# Altium footprint library Passives.PcbLib: 48 footprints (part 1 of 3)
Each footprint in its own frame and in the unit in brackets; x right, y up, seen from the top. Pads: shape width x height; smd on the part's side, far side on the other; paste and mask are expansions set on the pad; w line width, h text height; cw(c..) or ccw(c..) is an arc to the next point about the centre after c.
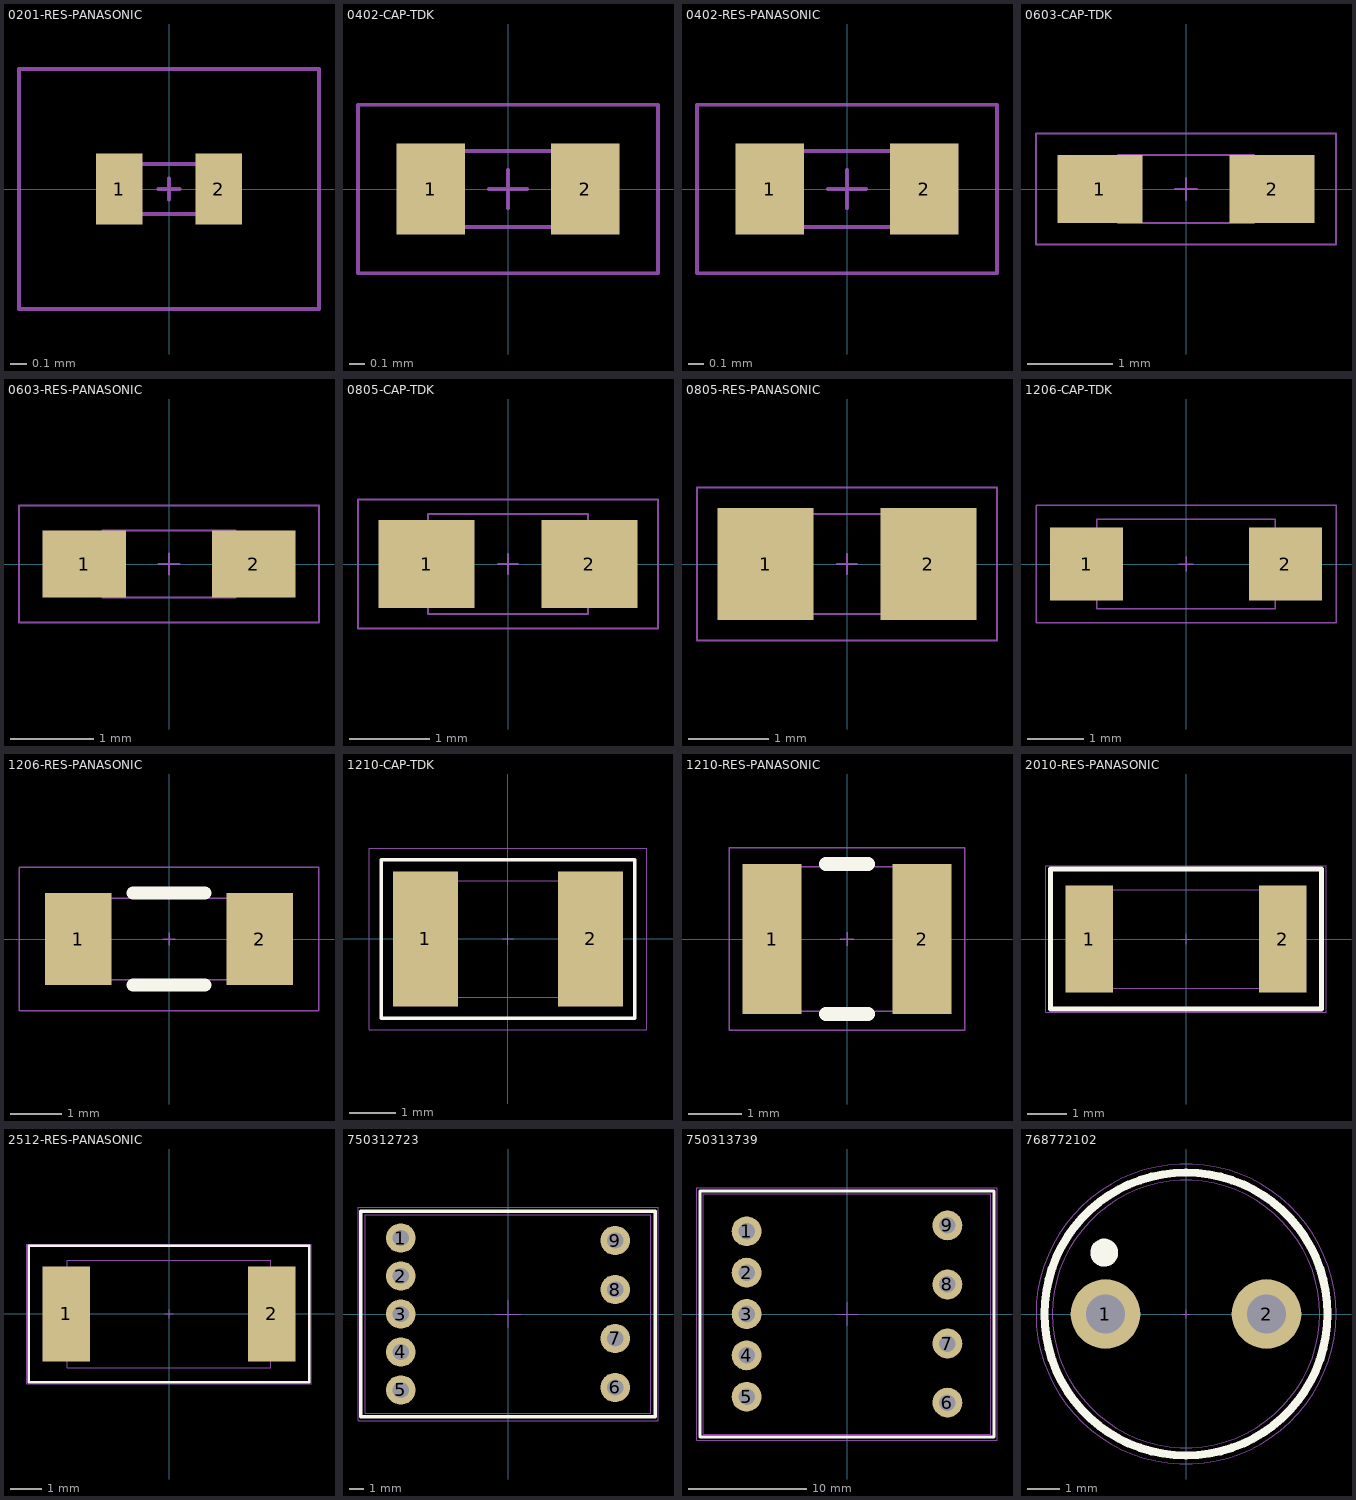
[diagram p0: the footprints below, top view; thin cyan lines are the x and y axes]

## 0201-RES-PANASONIC [mm]
pads (2):
  rect 0.28x0.43 smd mask+0.05: 1(-0.3,0) 2(0.3,0)
Top Courtyard:
  lines w0.025: -0.903,-0.723 -0.903,0.723 0.903,0.723 0.903,-0.723 -0.903,-0.723
Top Assembly:
  lines w0.025: -0.064,0 0.064,0 ; 0,-0.064 0,0.064 ; -0.3,-0.15 0.3,-0.15 0.3,0.15 -0.3,0.15 -0.3,-0.15
3D body "YAG_R0201_YAG.step": height 0.25, standoff 0, extent -0.318,-0.165 0.318,0.165

## 0402-CAP-TDK [mm]
pads (2):
  rect 0.45x0.6 smd: 1(-0.508,0) 2(0.508,0)
Top Courtyard:
  lines w0.025: -0.987,-0.554 0.987,-0.554 0.987,0.554 -0.987,0.554 -0.987,-0.554
Top Assembly:
  lines w0.025: -0.127,0 0.127,0 ; 0,-0.127 0,0.127 ; -0.5,-0.25 -0.5,0.25 0.5,0.25 0.5,-0.25 -0.5,-0.25
3D body "C1005C0G1H100D050BA.STEP": height 0.55, standoff 0, extent -0.5,-0.25 0.5,0.25

## 0402-RES-PANASONIC [mm]
pads (2):
  rect 0.45x0.6 smd: 1(-0.508,0) 2(0.508,0)
Top Courtyard:
  lines w0.025: -0.987,-0.554 -0.987,0.554 0.987,0.554 0.987,-0.554 -0.987,-0.554
Top Assembly:
  lines w0.025: -0.127,0 0.127,0 ; 0,-0.127 0,0.127 ; -0.5,-0.25 0.5,-0.25 0.5,0.25 -0.5,0.25 -0.5,-0.25
3D body "ERJ2RKF1003X.STEP": height 0.35, standoff 0, extent -0.5,-0.25 0.5,0.25

## 0603-CAP-TDK [mm]
pads (2):
  rect 1x0.8 smd: 1(-1.016,0) 2(1.016,0)
Top Courtyard:
  lines w0.025: -1.77,-0.654 1.77,-0.654 1.77,0.654 -1.77,0.654 -1.77,-0.654
Top Assembly:
  lines w0.025: -0.127,0 0.127,0 ; 0,-0.127 0,0.127 ; -0.8,-0.4 -0.8,0.4 0.8,0.4 0.8,-0.4 -0.8,-0.4
3D body "C1608C0G1H100D080AA.STEP": height 0.9, standoff 0, extent -0.8,-0.4 0.8,0.4

## 0603-RES-PANASONIC [mm]
pads (2):
  rect 1x0.8 smd: 1(-1.016,0) 2(1.016,0)
Top Courtyard:
  lines w0.025: -1.8,-0.7 1.8,-0.7 1.8,0.7 -1.8,0.7 -1.8,-0.7
Top Assembly:
  lines w0.025: -0.127,0 0.127,0 ; 0,-0.127 0,0.127 ; -0.8,-0.4 -0.8,0.4 0.8,0.4 0.8,-0.4 -0.8,-0.4
3D body "ERJ3EKF1003V.STEP": height 0.45, standoff 0, extent -0.8,-0.4 0.8,0.4

## 0805-CAP-TDK [mm]
pads (2):
  rect 1.2x1.1 smd: 1(-1.016,0) 2(1.016,0)
Top Courtyard:
  lines w0.025: -1.87,-0.804 -1.87,0.804 1.87,0.804 1.87,-0.804 -1.87,-0.804
Top Assembly:
  lines w0.025: -0.127,0 0.127,0 ; 0,-0.127 0,0.127 ; -1,-0.625 1,-0.625 1,0.625 -1,0.625 -1,-0.625
3D body "C2012X5R0G476M125AB.STEP": height 1.45, standoff 0, extent -1,-0.625 1,0.625

## 0805-RES-PANASONIC [mm]
pads (2):
  rect 1.2x1.4 smd: 1(-1.016,0) 2(1.016,0)
Top Courtyard:
  lines w0.025: -1.87,-0.954 1.87,-0.954 1.87,0.954 -1.87,0.954 -1.87,-0.954
Top Assembly:
  lines w0.025: -0.127,0 0.127,0 ; 0,-0.127 0,0.127 ; -1,-0.625 -1,0.625 1,0.625 1,-0.625 -1,-0.625
3D body "ERJP06F1003V.STEP": height 0.6, standoff 0, extent -1,-0.625 1,0.625

## 1206-CAP-TDK [mm]
pads (2):
  rect 1.3x1.3 smd: 1(-1.778,0) 2(1.778,0)
Top Courtyard:
  lines w0.025: -2.682,-1.054 -2.682,1.054 2.682,1.054 2.682,-1.054 -2.682,-1.054
Top Assembly:
  lines w0.025: -0.127,0 0.127,0 ; 0,-0.127 0,0.127 ; -1.6,-0.8 1.6,-0.8 1.6,0.8 -1.6,0.8 -1.6,-0.8
3D body "C3216X5R1V226M160AC.STEP": height 1.8, standoff 0, extent -1.6,-0.8 1.6,0.8

## 1206-RES-PANASONIC [mm]
pads (2):
  rect 1.3x1.8 smd: 1(-1.778,0) 2(1.778,0)
Top Overlay:
  lines w0.254: -0.7,-0.9 0.7,-0.9 ; -0.7,0.9 0.7,0.9
Top Courtyard:
  lines w0.025: -2.936,-1.408 2.936,-1.408 2.936,1.408 -2.936,1.408 -2.936,-1.408
Top Assembly:
  lines w0.025: -0.127,0 0.127,0 ; 0,-0.127 0,0.127 ; -1.6,-0.8 -1.6,0.8 1.6,0.8 1.6,-0.8 -1.6,-0.8
3D body "ERJ8BWFR100V.STEP": height 0.65, standoff 0, extent -1.6,-0.8 1.6,0.8

## 1210-CAP-TDK [mm]
pads (2):
  rect 1.4x2.9 smd: 1(-1.778,0) 2(1.778,0)
Top Overlay:
  lines w0.076: -2.732,-1.704 2.732,-1.704 2.732,1.704 -2.732,1.704 -2.732,-1.704
Top Courtyard:
  lines w0.025: -2.986,-1.958 -2.986,1.958 2.986,1.958 2.986,-1.958 -2.986,-1.958
Top Assembly:
  lines w0.025: -0.127,0 0.127,0 ; 0,-0.127 0,0.127 ; -1.6,-1.25 1.6,-1.25 1.6,1.25 -1.6,1.25 -1.6,-1.25
3D body "GRM32ER71A476KE15L.STEP": height 2.7, standoff 0, extent -1.6,-1.25 1.6,1.25

## 1210-RES-PANASONIC [mm]
pads (2):
  rect 1.1x2.8 smd: 1(-1.4,0) 2(1.4,0)
Top Overlay:
  lines w0.254: -0.4,-1.4 0.4,-1.4 ; -0.4,1.4 0.4,1.4
Top Courtyard:
  lines w0.025: -2.2,-1.7 -2.2,1.7 2.2,1.7 2.2,-1.7 -2.2,-1.7
Top Assembly:
  lines w0.025: -0.127,0 0.127,0 ; 0,-0.127 0,0.127 ; -1.7,-1.35 -1.7,1.35 1.7,1.35 1.7,-1.35 -1.7,-1.35
3D body "CRCW1210470RJNEA.STEP": height 0.6, standoff 0, extent -1.6,-1.25 1.6,1.25

## 2010-RES-PANASONIC [mm]
pads (2):
  rect 1.2x2.7 smd: 1(-2.45,0) 2(2.45,0)
Top Overlay:
  lines w0.127: -3.429,-1.778 -3.429,1.778 3.429,1.778 3.429,-1.778 -3.429,-1.778
Top Courtyard:
  lines w0.025: -3.558,-1.858 3.558,-1.858 3.558,1.858 -3.558,1.858 -3.558,-1.858
Top Assembly:
  lines w0.025: -0.127,0 0.127,0 ; 0,-0.127 0,0.127 ; -2.5,-1.25 -2.5,1.25 2.5,1.25 2.5,-1.25 -2.5,-1.25
3D body "CRCW2010120RFKEFHP.STEP": height 0.7, standoff 0, extent -2.5,-1.25 2.5,1.25

## 2512-RES-PANASONIC [mm]
pads (2):
  rect 1.5x3 smd: 1(-3.25,0) 2(3.25,0)
Top Overlay:
  lines w0.076: -4.445,-2.159 4.445,-2.159 4.445,2.159 -4.445,2.159 -4.445,-2.159
Top Courtyard:
  lines w0.025: -4.508,-2.208 4.508,-2.208 4.508,2.208 -4.508,2.208 -4.508,-2.208
Top Assembly:
  lines w0.025: -0.127,0 0.127,0 ; 0,-0.127 0,0.127 ; -3.225,-1.7 -3.225,1.7 3.225,1.7 3.225,-1.7 -3.225,-1.7
3D body "CRCW25121K00FKEG.STEP": height 0.7, standoff 0, extent -3.15,-1.575 3.15,1.575

## 750312723 [mil]
pads (9):
  round 82.91 hole 46.06: 1(-302,214) 2(-302,107) 3(-302,0) 4(-302,-107) 5(-302,-214) 6(302,-207) 7(302,-69) 8(302,69) 9(302,207)
Top Overlay:
  lines w10: -415,-290 -415,290 415,290 415,-290 -415,-290
Top Courtyard:
  lines w1: -422.5,-300 422.5,-300 422.5,300 -422.5,300 -422.5,-300
Top Assembly:
  lines w1: -39.37,0 39.37,0 ; 0,-39.37 0,39.37 ; -402.5,-280 -402.5,280 402.5,280 402.5,-280 -402.5,-280
3D body "070-5662 (rev1).STEP": height 370.08, standoff -102.36, extent -406.46,-263.9 361.26,264.45

## 750313739 [mm]
pads (9):
  round 2.524 hole 1.4: 1(-8.5,7) 2(-8.5,3.5) 3(-8.5,0) 4(-8.5,-3.5) 5(-8.5,-7) 6(8.5,-7.5) 7(8.5,-2.5) 8(8.5,2.5) 9(8.5,7.5)
Top Overlay:
  lines w0.254: -12.446,-10.414 -12.446,10.414 12.446,10.414 12.446,-10.414 -12.446,-10.414
Top Courtyard:
  lines w0.025: -12.7,-10.668 12.696,-10.668 12.696,10.668 -12.7,10.668 -12.7,-10.668
Top Assembly:
  lines w0.025: -1,0 1,0 ; 0,-1 0,1 ; -12.192,-10.16 -12.192,10.16 12.188,10.16 12.188,-10.16 -12.192,-10.16
3D body "070-5280 (rev1).STEP": height 14.9, standoff -3.5, extent -12.415,-9.94 11.395,9.86

## 768772102 [mm]
pads (2):
  round 2.16 hole 1.2: 1(-2.5,0) 2(2.5,0)
Top Overlay:
  circle w0.508: c-2.54,1.905 r0.18
  circle w0.254: c0,0 r4.394
Top Courtyard:
  circle w0.025: c0,0 r4.658
Top Assembly:
  circle w0.025: c0,0 r4.15
  lines w0.025: -0.127,0 0.127,0 ; 0,-0.127 0,0.127
3D body "Download_STP_WE-TI_8012B (rev1).stp": height 12.55, standoff -4.95, extent -5.348,-5.348 5.348,5.348